# Altium footprint library HANDS-FREEE-PcbLib-V1.10.PcbLib: 197 footprints (part 11 of 13)
Each footprint in its own frame and in the unit in brackets; x right, y up, seen from the top. Pads: shape width x height; smd on the part's side, far side on the other; paste and mask are expansions set on the pad; w line width, h text height; cw(c..) or ccw(c..) is an arc to the next point about the centre after c.
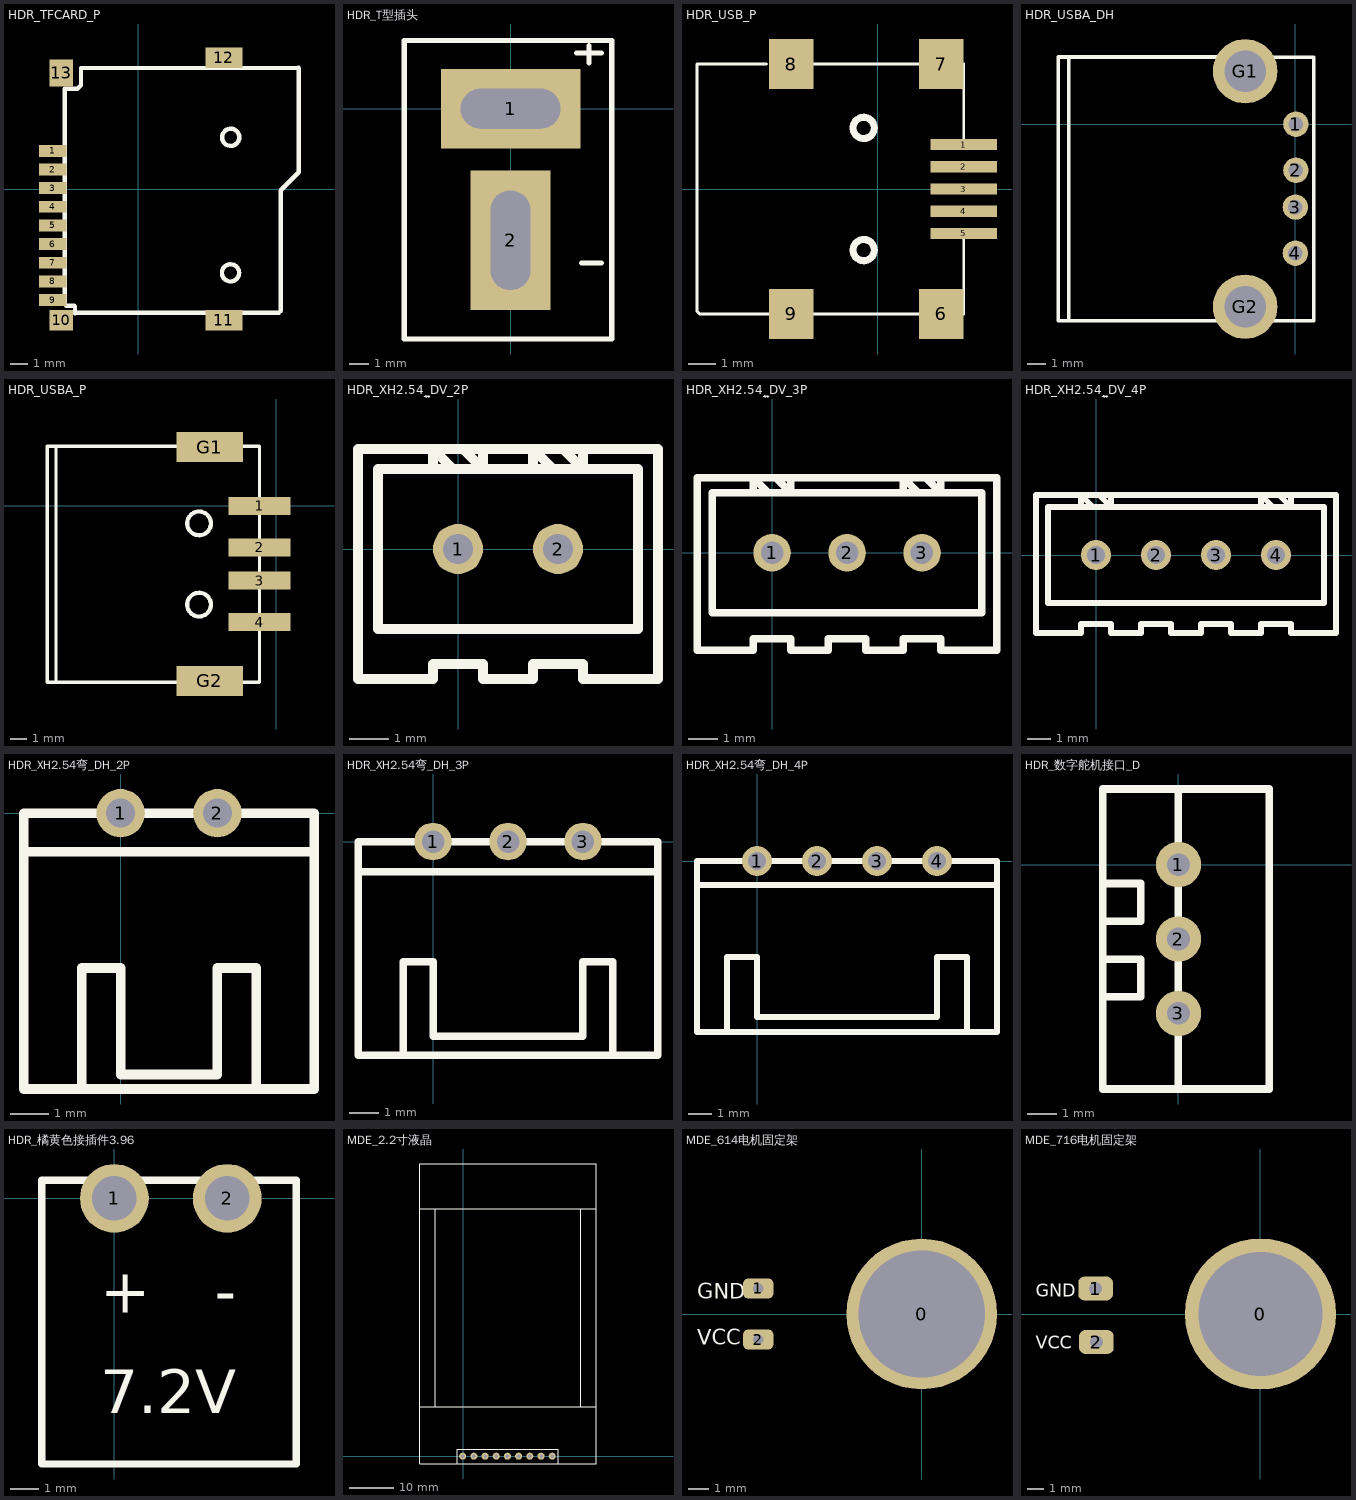
[diagram p10: the footprints below, top view; thin cyan lines are the x and y axes]

## HDR_TFCARD_P [mm]
pads (13):
  rect 1.6x0.7 smd: 1(-5.05,2.25) 2(-5.05,1.15) 3(-5.05,0.05) 4(-5.05,-1.05) 5(-5.05,-2.15) 6(-5.05,-3.25) 7(-5.05,-4.35) 8(-5.05,-5.45) 9(-5.05,-6.55)
  rect 1.4x1.2 smd: 10(-4.55,-7.75)
  rect 2.2x1.2 smd: 11(5.05,-7.75) 12(5.05,7.75)
  rect 1.4x1.6 smd: 13(-4.55,6.85)
Top Overlay:
  circle w0.254: c5.439,-4.948 r0.508
  circle w0.254: c5.45,3.05 r0.508
  lines w0.254: -3.738,-7.344 -3.738,-6.937 -3.789,-6.886 -4.246,-6.886 -4.348,-6.785 -4.348,5.915 -3.586,5.915 -3.383,6.118 -3.383,7.134 9.45,7.15 ; -3.688,-7.293 8.301,-7.293 8.403,-7.191 8.403,-0.079 9.47,0.988 9.47,7.13

## HDR_T型插头 [mm]
pads (2):
  rect 7x4 hole 2 slot 5 at 0 deg: 1(0,0)
  rect 4x7 hole 2 slot 5 at 90 deg: 2(0,-6.604)
Top Overlay:
  lines w0.254: 3.302,2.794 4.572,2.794 ; 3.556,-7.747 4.572,-7.747 ; 3.937,2.286 3.937,3.175 ; -5.334,-11.557 -5.334,3.429 -5.08,3.429 5.08,3.429 5.08,-11.557 -5.334,-11.557

## HDR_USB_P [mm]
pads (9):
  rect 2.4x0.4 smd: 1(3.1,1.6) 2(3.1,0.8) 3(3.1,0) 4(3.1,-0.8) 5(3.1,-1.6)
  rect 1.6x1.8 smd: 6(2.3,-4.5) 7(2.3,4.5) 8(-3.1,4.5) 9(-3.1,-4.5)
Top Overlay:
  circle w0.254: c-0.5,2.2 r0.383
  circle w0.254: c-0.5,-2.2 r0.383
  lines w0.1: -4,4.5 -6.5,4.5 -6.5,-4.4 -6.4,-4.5 -3.9,-4.5 ; -2.3,-4.5 1.5,-4.5 ; -2.3,4.5 1.5,4.5 ; 3.1,-4.5 3.1,-1.8 ; 3.1,1.8 3.1,4.5

## HDR_USBA_DH [mm]
pads (6):
  round 1.4 hole 0.8: 1(0.028,0) 2(0.028,-2.54) 3(0,-4.572) 4(0,-7.112)
  round 3.556 hole 2.286: G1(-2.767,2.921) G2(-2.771,-10.068)
Top Overlay:
  lines w0.2: -13.081,-10.847 -2.779,-10.847 ; -13.081,3.707 -2.768,3.707
  lines w0.203: -13.081,-10.847 -13.081,3.707 ; -12.502,-10.847 -12.502,3.707 ; -2.771,-10.839 1.019,-10.839 1.019,-6.967 1.019,-0.068 1.019,3.699 -2.76,3.699

## HDR_USBA_P [mil]
pads (6):
  rect 150x44 smd: 1(-40,0) 2(-40,-100) 3(-40,-180) 4(-40,-280)
  rect 160x72 smd: G1(-160,142) G2(-160,-422)
Top Overlay:
  circle w10: c-186,-238 r28.6
  circle w10: c-186,-42 r28.6
  lines w8: -531.21,-426.1 -531.21,143 ; -552,-425.1 -552,144 -40,144 -40,-425.1 -552,-425.1

## HDR_XH2.54ֱ_DV_2P [mil]
pads (2):
  round 50 hole 30: 1(0,0) 2(100,0)
Top Overlay:
  lines w10: -5,80 -25,100 ; 5,100 25,80 ; 95,80 75,100 ; 105,100 125,80 ; 200,-110 200,-100 ; -25,80 -25,100 ; -25,80 -80,80 -80,-80 180,-80 180,80 125,80 ; -25,80 25,80 ; -25,100 -100,100 -100,0 -100,-130 -25,-130 -25,-115 25,-115 25,-130 75,-130 75,-115 125,-115 125,-130 200,-130 200,100 125,100 ; -25,100 25,100 ; 25,80 25,100 ; 25,80 75,80 ; 25,100 75,100 ; 75,80 75,100 ; 75,80 125,80 ; 75,100 125,100 ; 125,80 125,100 ; 125,80 125,100

## HDR_XH2.54ֱ_DV_3P [mil]
pads (3):
  round 50 hole 30: 1(0,0) 2(100,0) 3(200,0)
Top Overlay:
  lines w10: -5,80 -25,100 ; 5,100 25,80 ; 195,80 175,100 ; 200,100 75,100 25,100 ; 205,100 225,80 ; -25,80 25,80 ; -25,80 -80,80 -80,-80 280,-80 280,80 75,80 25,80 ; -25,80 -25,100 ; -25,100 25,100 ; -25,100 -100,100 -100,0 -100,-130 -25,-130 -25,-115 25,-115 25,-130 75,-130 75,-115 125,-115 125,-130 175,-130 175,-115 225,-115 225,-130 300,-130 300,100 225,100 ; 25,80 25,100 ; 175,100 175,80 225,80 ; 175,100 225,100 ; 225,80 225,100 ; 225,80 225,100

## HDR_XH2.54ֱ_DV_4P [mil]
pads (4):
  round 50 hole 30: 1(0,0) 2(100,0) 3(200,0) 4(300,0)
Top Overlay:
  lines w10: -5,80 -25,100 ; 5,100 25,80 ; 295,80 275,100 ; 305,100 325,80 ; -25,80 -25,100 ; -25,80 -80,80 -80,-80 380,-80 380,80 75,80 25,80 ; -25,80 25,80 ; -25,100 -100,100 -100,0 -100,-130 -25,-130 -25,-115 25,-115 25,-130 75,-130 75,-115 125,-115 125,-130 175,-130 175,-115 225,-115 225,-130 275,-130 275,-115 325,-115 325,-130 400,-130 400,100 325,100 ; -25,100 25,100 ; 25,80 25,100 ; 25,100 75,100 275,100 ; 275,100 275,80 325,80 ; 275,100 325,100 ; 325,80 325,100 ; 325,80 325,100

## HDR_XH2.54弯_DH_2P [mil]
pads (2):
  round 50 hole 30: 1(0,0) 2(100,0)
Top Overlay:
  lines w10: -100,-40 200,-40 ; -40,-285 -40,-160 0,-160 0,-270 100,-270 100,-160 130,-160 140,-160 140,-280 ; -100,-285 200,-285 200,0 -100,0 -100,-285

## HDR_XH2.54弯_DH_3P [mil]
pads (3):
  round 50 hole 30: 1(0,0) 2(100,0) 3(200,0)
Top Overlay:
  lines w10: -100,-40 300,-40 ; -40,-285 -40,-160 0,-160 0,-260 90,-260 130,-260 200,-260 200,-160 240,-160 240,-285 ; -100,-285 300,-285 300,0 -100,0 -100,-285

## HDR_XH2.54弯_DH_4P [mil]
pads (4):
  round 50 hole 30: 1(0,0) 2(100,0) 3(200,0) 4(300,0)
Top Overlay:
  lines w10: -100,-40 400,-40 ; -50,-285 -50,-160 0,-160 0,-260 300,-260 300,-160 350,-160 350,-285 ; -100,-285 -100,0 400,0 400,-285 -100,-285

## HDR_数字舵机接口_D [mil]
height 314.96
pads (3):
  round 60 hole 30: 1(0,0) 2(0,-98.43) 3(0,-196.85)
Top Overlay:
  lines w10: -100,-175 -50,-175 -50,-125 -100,-125 ; -100,-75 -50,-75 -50,-25 -100,-25 ; 0,-296.85 0,100 ; 0,-200 10,-200 ; -100,-296.85 120,-296.85 120,100 -100,100 -100,-296.85

## HDR_橘黄色接插件3.96 [mm] "7.2V接插件"
height 10
pads (2):
  round 2.4 hole 1.55: 1(0,0) 2(3.937,0)
Top Overlay:
  lines w0.254: -2.54,-9.271 -2.54,0.635 6.35,0.635 6.35,-9.271 -2.54,-9.271
  text "-" at 3.5,-4 h1.52
  text "+" at -0.5,-4 h1.52
  text "7.2V" at -0.5,-7.5 h1.52

## MDE_2.2寸液晶 [mm]
pads (9):
  round 1.6 hole 0.8: 1(-0.127,0) 2(2.413,0) 3(4.953,0) 4(7.493,0) 5(10.033,0) 6(12.573,0) 7(15.113,0) 8(17.653,0) 9(20.193,0)
Top Overlay:
  lines w0.254: -9.906,11.176 30.226,11.176 ; -9.906,56.134 30.226,56.134 ; -6.35,11.176 -6.35,56.134 ; -1.27,-1.778 -9.906,-1.778 -9.906,66.294 30.226,66.294 30.226,-1.778 21.59,-1.778 ; 26.67,11.176 26.67,53.086 26.67,56.134 ; 21.59,-1.778 21.59,1.524 -1.397,1.524 -1.397,-1.778 21.59,-1.778

## MDE_614电机固定架 [mm]
pads (3):
  round 7.5 hole 6.3: 0(0,0)
  rrect50% 1.5x1 hole 0.508: 1(-8.128,1.27) 2(-8.128,-1.27)
Top Overlay:
  text "VCC" at -11.176,-1.524 h0.76
  text "GND" at -11.176,0.762 h0.76

## MDE_716电机固定架 [mil]
pads (3):
  round 350 hole 287.4: 0(0,0)
  rrect50% 80x55 hole 30: 1(-382,59) 2(-380,-65)
Top Overlay:
  text "VCC" at -520,-80 h30
  text "GND" at -520,40 h30